# Altium integrated library diode.IntLib: 193 symbols
Pins are listed as number, name and electrical type; pins without a type are passive.

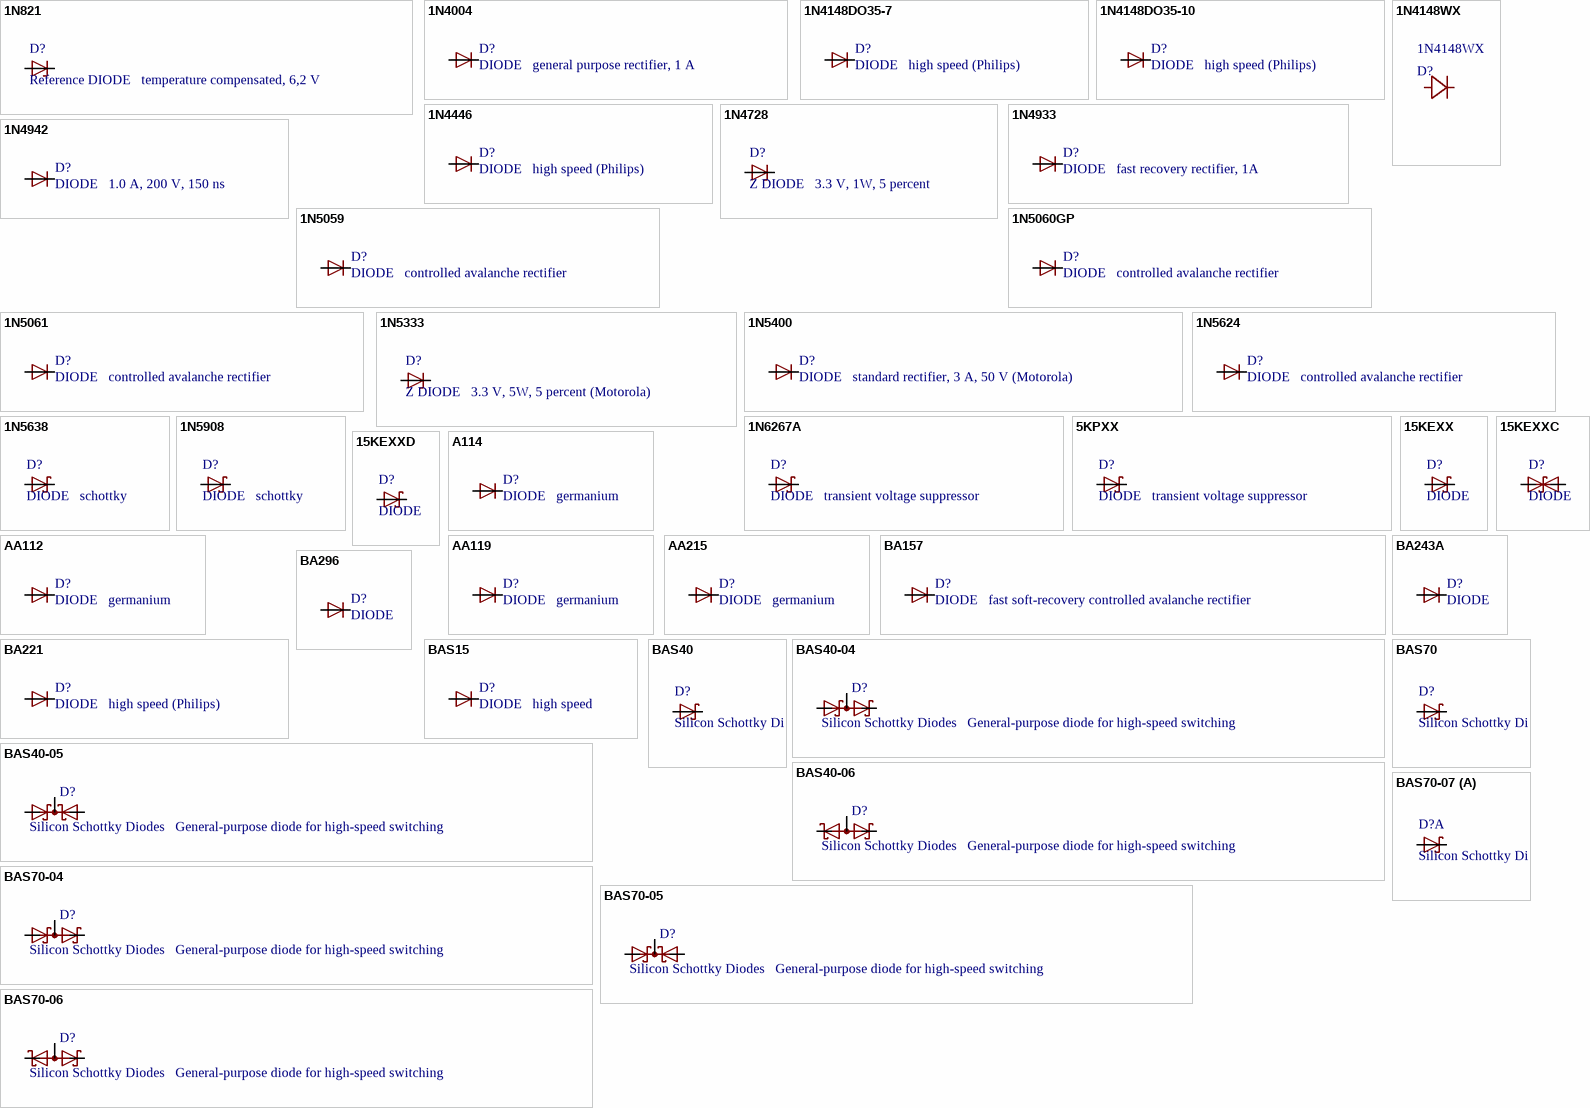
[diagram p0: symbols 1N821 to BAS70-07]

## 1N821
designator D?, comment Reference DIODE   temperature compensated, 6,2 V
footprint DO35Z10
pins: A, C

## 1N4004
designator D?, comment DIODE   general purpose rectifier, 1 A
footprint DO41-10
pins: A, C

## 1N4148DO35-7
designator D?, comment DIODE   high speed (Philips)
footprint DO35-7
pins: A, C

## 1N4148DO35-10
designator D?, comment DIODE   high speed (Philips)
footprint DO35-10
pins: A, C

## 1N4148WX
designator D?
Part Number: 1N4148WX
footprint SOD323
pins: A, C

## 1N4446
designator D?, comment DIODE   high speed (Philips)
footprint DO35-10
pins: A, C

## 1N4728
designator D?, comment Z DIODE   3.3 V, 1W, 5 percent
footprint DO41Z10
pins: A, C

## 1N4933
designator D?, comment DIODE   fast recovery rectifier, 1A
footprint DO41-10
pins: A, C

## 1N4942
designator D?, comment DIODE   1.0 A, 200 V, 150 ns
footprint DO41-10
pins: A, C

## 1N5059
designator D?, comment DIODE   controlled avalanche rectifier
footprint DO204-10
pins: A, C

## 1N5060GP
designator D?, comment DIODE   controlled avalanche rectifier
footprint DO15-12
pins: A, C

## 1N5061
designator D?, comment DIODE   controlled avalanche rectifier
footprint SOD57-10
pins: A, C

## 1N5333
designator D?, comment Z DIODE   3.3 V, 5W, 5 percent (Motorola)
footprint C1702-15
pins: A, C

## 1N5400
designator D?, comment DIODE   standard rectifier, 3 A, 50 V (Motorola)
footprint DO201-15
pins: A, C

## 1N5624
designator D?, comment DIODE   controlled avalanche rectifier
footprint DO201-15
pins: A, C

## 1N5638
designator D?, comment DIODE   schottky
footprint DO13M
pins: A, C

## 1N5908
designator D?, comment DIODE   schottky
footprint C4111-15
pins: A, C

## 1N6267A
designator D?, comment DIODE   transient voltage suppressor
footprint C4111-15
pins: A, C

## 5KPXX
designator D?, comment DIODE   transient voltage suppressor
footprint P6T15
pins: A, C

## 15KEXX
designator D?, comment DIODE
footprint CB429-17
pins: A, C

## 15KEXXC
designator D?, comment DIODE
footprint CB429-17
pins: A 1, C 2

## 15KEXXD
designator D?, comment DIODE
footprint DO201T15
pins: A, C

## A114
designator D?, comment DIODE   germanium
footprint DO204-10
pins: A, C

## AA112
designator D?, comment DIODE   germanium
footprint DO07
pins: A, C

## AA119
designator D?, comment DIODE   germanium
footprint DO07
pins: A, C

## AA215
designator D?, comment DIODE   germanium
footprint DO07
pins: A, C

## BA157
designator D?, comment DIODE   fast soft-recovery controlled avalanche rectifier
footprint P1-10
pins: A, C

## BA221
designator D?, comment DIODE   high speed (Philips)
footprint DO35-10
pins: A, C

## BA243A
designator D?, comment DIODE
footprint DO35-10
pins: A, C

## BA296
designator D?, comment DIODE
footprint P2-15
pins: A, C

## BAS15
designator D?, comment DIODE   high speed
footprint DO34-7
pins: A, C

## BAS40
designator D?, comment Silicon Schottky Diodes   General-purpose diode for high-speed switching
footprint SOT23
pins: 1 A, 3 C

## BAS40-04
designator D?, comment Silicon Schottky Diodes   General-purpose diode for high-speed switching
footprint SOT23
pins: 1 A1, 2 C2, 3 C1A2

## BAS40-05
designator D?, comment Silicon Schottky Diodes   General-purpose diode for high-speed switching
footprint SOT23
pins: 1 A1, 2 A2, 3 C

## BAS40-06
designator D?, comment Silicon Schottky Diodes   General-purpose diode for high-speed switching
footprint SOT23
pins: 1 K1, 2 K2, 3 AA

## BAS70
designator D?, comment Silicon Schottky Diodes   General-purpose diode for high-speed switching
footprint SOT23
pins: 1 A, 3 C

## BAS70-04
designator D?, comment Silicon Schottky Diodes   General-purpose diode for high-speed switching
footprint SOT23
pins: 1 A1, 2 C2, 3 C1A2

## BAS70-05
designator D?, comment Silicon Schottky Diodes   General-purpose diode for high-speed switching
footprint SOT23
pins: 1 A1, 2 A2, 3 C

## BAS70-06
designator D?, comment Silicon Schottky Diodes   General-purpose diode for high-speed switching
footprint SOT23
pins: 1 K1, 2 K2, 3 AA

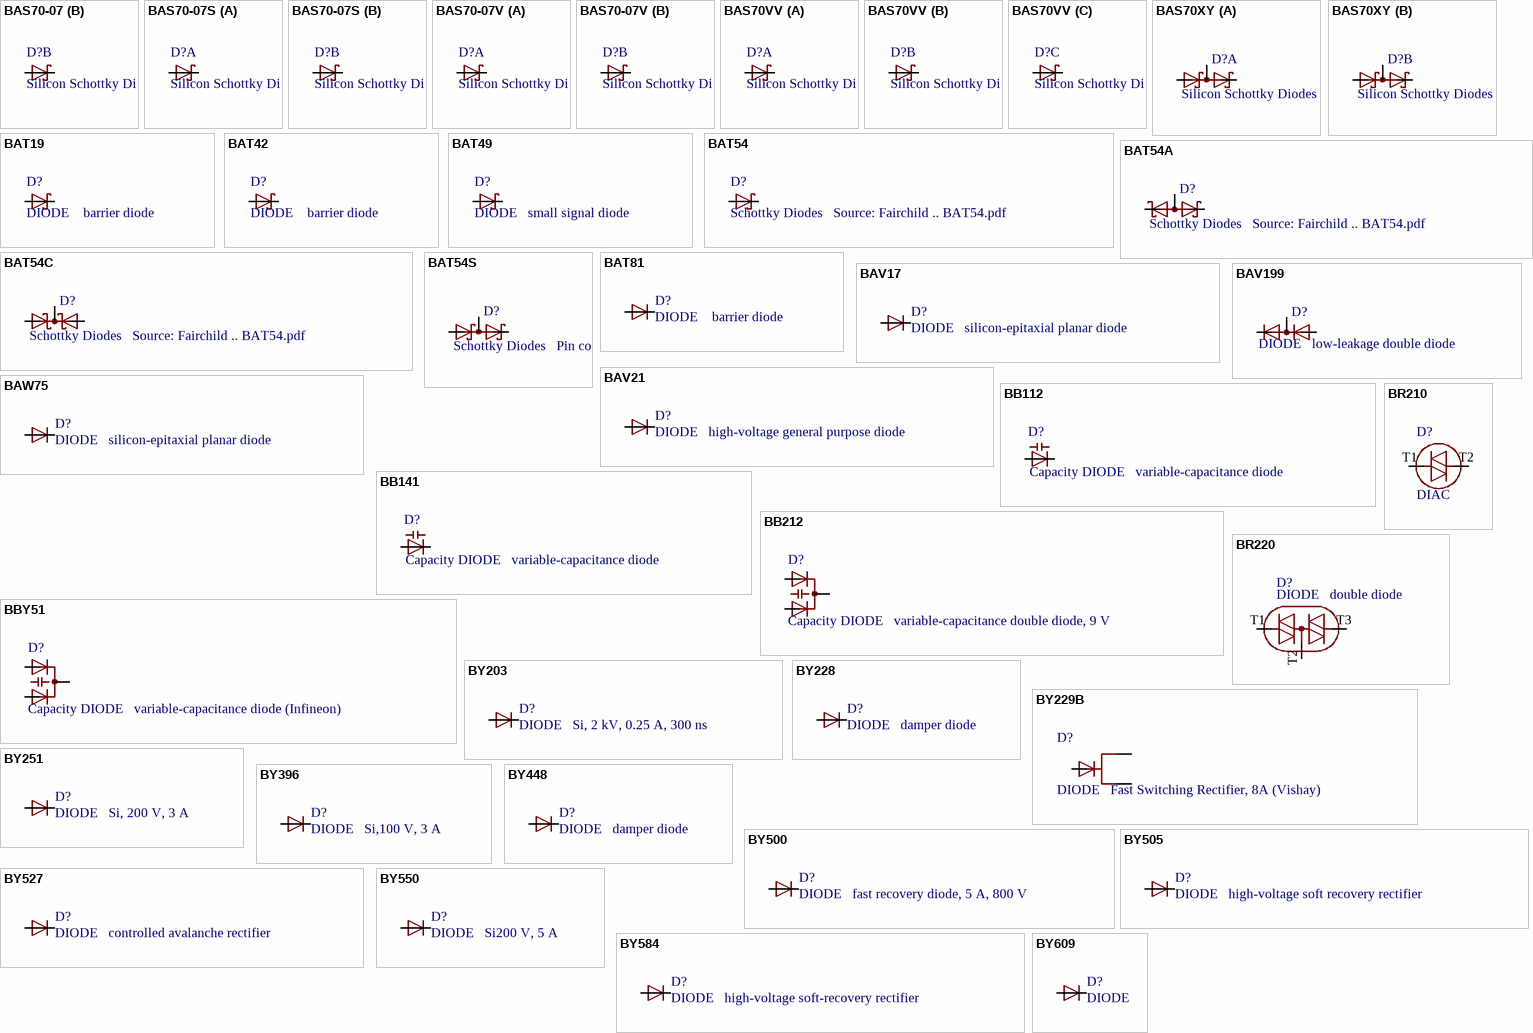
[diagram p1: symbols BAS70-07 to BY609]

## BAS70-07
designator D?, comment Silicon Schottky Diodes   General-purpose diode for high-speed switching Source: BAS70_1PS7XSB70_SER_8.pdf
footprint SOT143-R
part A pins: 1 C, 4 A
part B pins: 2 C, 3 A

## BAS70-07S
designator D?, comment Silicon Schottky Diodes   General-purpose diode for high-speed switching Source: BAS70_1PS7XSB70_SER_8.pdf
footprint SOT363_PHILIPS
part A pins: 1 A, 6 C
part B pins: 3 C, 4 A

## BAS70-07V
designator D?, comment Silicon Schottky Diodes   General-purpose diode for high-speed switching Source: BAS70_1PS7XSB70_SER_8.pdf
footprint SOT666
part A pins: 1 A, 6 C
part B pins: 3 C, 4 A

## BAS70VV
designator D?, comment Silicon Schottky Diodes   General-purpose diode for high-speed switching Source: BAS70_1PS7XSB70_SER_8.pdf
footprint SOT666
part A pins: 1 A, 6 C
part B pins: 2 A, 5 C
part C pins: 3 A, 4 C

## BAS70XY
designator D?, comment Silicon Schottky Diodes   General-purpose diode for high-speed switching Source: BAS70_1PS7XSB70_SER_8.pdf
footprint SOT363_PHILIPS
part A pins: 1 A1, 2 C2, 6 C1A2
part B pins: 3 C1A2, 4 A1, 5 C2

## BAT19
designator D?, comment DIODE    barrier diode
footprint DO35-10
pins: A, C

## BAT42
designator D?, comment DIODE    barrier diode
footprint DO35-10
pins: A, C

## BAT49
designator D?, comment DIODE   small signal diode
footprint DO41-10
pins: A, C

## BAT54
designator D?, comment Schottky Diodes   Source: Fairchild .. BAT54.pdf
footprint SOT23
pins: 1 A, 3 C

## BAT54A
designator D?, comment Schottky Diodes   Source: Fairchild .. BAT54.pdf
footprint SOT23
pins: 1 K1, 2 K2, 3 AA

## BAT54C
designator D?, comment Schottky Diodes   Source: Fairchild .. BAT54.pdf
footprint SOT23
pins: 1 A1, 2 A2, 3 CC

## BAT54S
designator D?, comment Schottky Diodes   Pin connection corrected 2011-05-04 Source: Fairchild .. BAT54.pdf
footprint SOT23
pins: 1 A1, 2 C2, 3 C1A2

## BAT81
designator D?, comment DIODE    barrier diode
footprint DO34-7
pins: A, C

## BAV17
designator D?, comment DIODE   silicon-epitaxial planar diode
footprint DO35-10
pins: A, C

## BAV21
designator D?, comment DIODE   high-voltage general purpose diode
footprint DO35-10
pins: A, C

## BAV199
designator D?, comment DIODE   low-leakage double diode
footprint SOT23
pins: 1 A, 2 C, 3 AC

## BAW75
designator D?, comment DIODE   silicon-epitaxial planar diode
footprint DO35-10
pins: A, C

## BB112
designator D?, comment Capacity DIODE   variable-capacitance diode
footprint SOT54H
pins: A, C

## BB141
designator D?, comment Capacity DIODE   variable-capacitance diode
footprint SOD523
pins: A, C

## BB212
designator D?, comment Capacity DIODE   variable-capacitance double diode, 9 V
footprint SOT54E
pins: A1, A2, C

## BBY51
designator D?, comment Capacity DIODE   variable-capacitance diode (Infineon)
footprint SOT23
pins: 1 A1, 2 A2, 3 C

## BR210
designator D?, comment DIAC
footprint BR210S
pins: T1, T2

## BR220
designator D?, comment DIODE   double diode
footprint BR220S
pins: T1, T2, T3

## BY203
designator D?, comment DIODE   Si, 2 kV, 0.25 A, 300 ns
footprint SGA-10
pins: A, C

## BY228
designator D?, comment DIODE   damper diode
footprint SOD64-10
pins: A, C

## BY229B
designator D?, comment DIODE   Fast Switching Rectifier, 8A (Vishay)
footprint TO263AB
pins: 1, 2, K

## BY251
designator D?, comment DIODE   Si, 200 V, 3 A
footprint DO201-15
pins: A, C

## BY396
designator D?, comment DIODE   Si,100 V, 3 A
footprint DO201-15
pins: A, C

## BY448
designator D?, comment DIODE   damper diode
footprint SOD57-10
pins: A, C

## BY500
designator D?, comment DIODE   fast recovery diode, 5 A, 800 V
footprint DO201-15
pins: A, C

## BY505
designator D?, comment DIODE   high-voltage soft recovery rectifier
footprint SOD61A
pins: A, C

## BY527
designator D?, comment DIODE   controlled avalanche rectifier
footprint SOD57Z10
pins: A, C

## BY550
designator D?, comment DIODE   Si200 V, 5 A
footprint DO27-15
pins: A, C

## BY584
designator D?, comment DIODE   high-voltage soft-recovery rectifier
footprint SOD61A
pins: A, C

## BY609
designator D?, comment DIODE
footprint SOD61B
pins: A, C

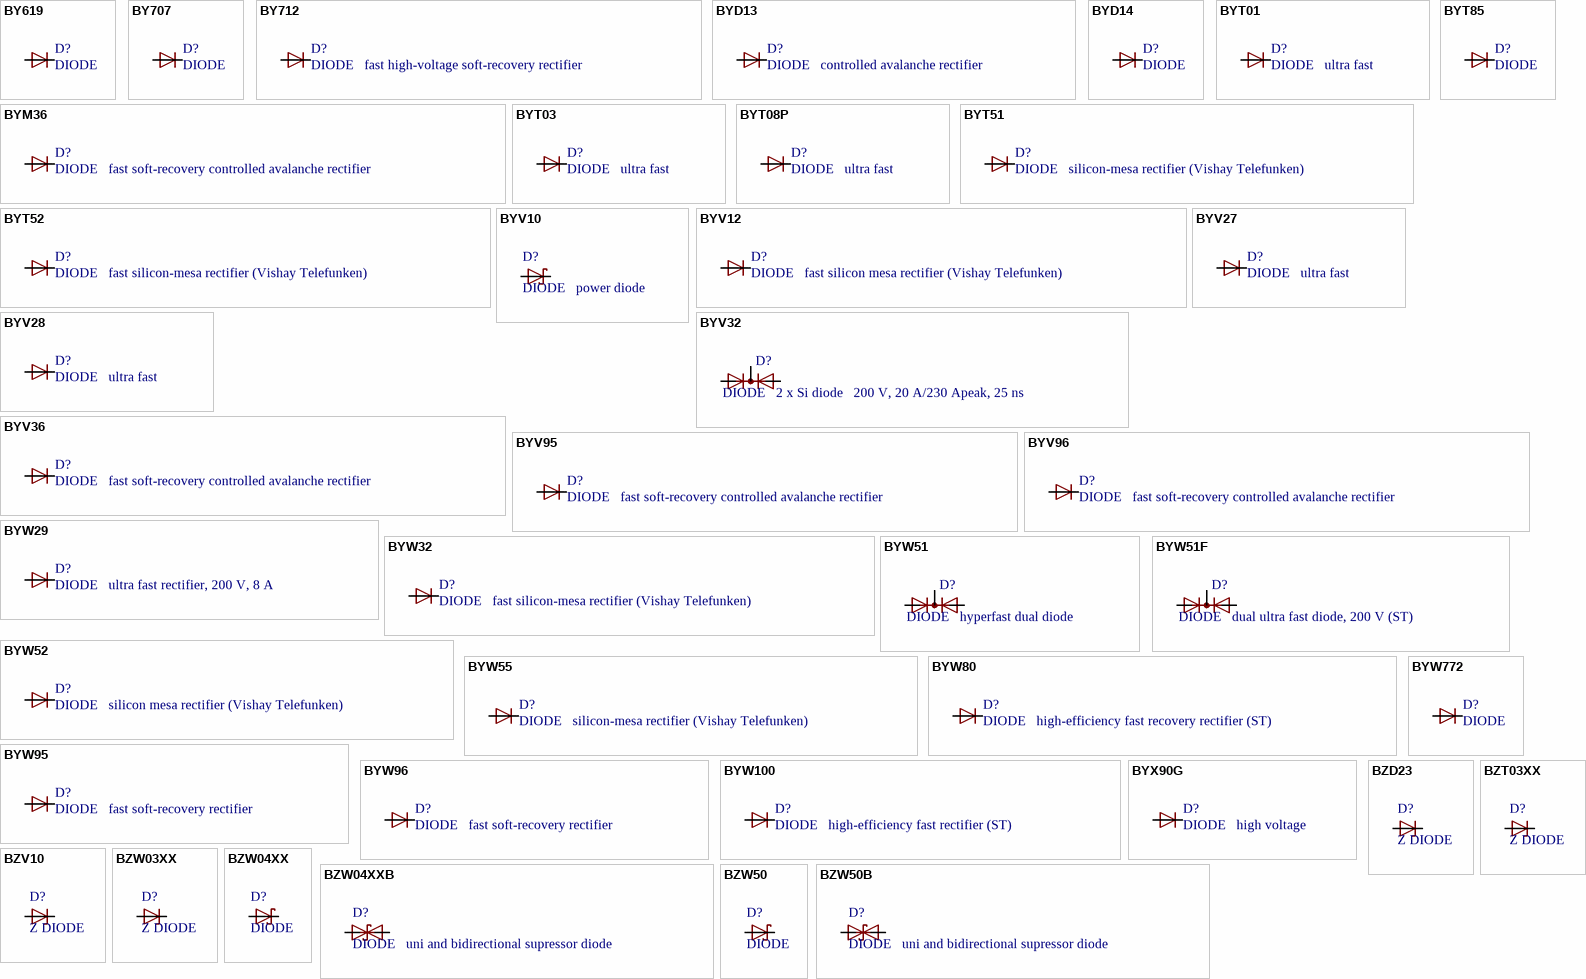
[diagram p2: symbols BY619 to BZW50B]

## BY619
designator D?, comment DIODE
footprint SOD61C
pins: A, C

## BY707
designator D?, comment DIODE
footprint SOD61D
pins: A, C

## BY712
designator D?, comment DIODE   fast high-voltage soft-recovery rectifier
footprint SOD61E
pins: A, C

## BYD13
designator D?, comment DIODE   controlled avalanche rectifier
footprint SOD81
pins: A, C

## BYD14
designator D?, comment DIODE
footprint SOD84
pins: A, C

## BYM36
designator D?, comment DIODE   fast soft-recovery controlled avalanche rectifier
footprint SOD64-10
pins: A, C

## BYT01
designator D?, comment DIODE   ultra fast
footprint F126-10
pins: A, C

## BYT03
designator D?, comment DIODE   ultra fast
footprint DO27-15
pins: A, C

## BYT08P
designator D?, comment DIODE   ultra fast
footprint TO220ACS
pins: A, C

## BYT51
designator D?, comment DIODE   silicon-mesa rectifier (Vishay Telefunken)
footprint SGA-10
pins: A, C

## BYT52
designator D?, comment DIODE   fast silicon-mesa rectifier (Vishay Telefunken)
footprint SGA-10
pins: A, C

## BYT85
designator D?, comment DIODE
footprint DO220S
pins: A, C

## BYV10
designator D?, comment DIODE   power diode
footprint DO41-10
pins: A, C

## BYV12
designator D?, comment DIODE   fast silicon mesa rectifier (Vishay Telefunken)
footprint SGA-10
pins: A, C

## BYV27
designator D?, comment DIODE   ultra fast
footprint SOD57-10
pins: A, C

## BYV28
designator D?, comment DIODE   ultra fast
footprint SOD64-10
pins: A, C

## BYV32
designator D?, comment DIODE   2 x Si diode   200 V, 20 A/230 Apeak, 25 ns
footprint TO220ABS
pins: A1, A2, C

## BYV36
designator D?, comment DIODE   fast soft-recovery controlled avalanche rectifier
footprint SOD57-10
pins: A, C

## BYV95
designator D?, comment DIODE   fast soft-recovery controlled avalanche rectifier
footprint SOD57-10
pins: A, C

## BYV96
designator D?, comment DIODE   fast soft-recovery controlled avalanche rectifier
footprint SOD57-10
pins: A, C

## BYW29
designator D?, comment DIODE   ultra fast rectifier, 200 V, 8 A
footprint DO220S
pins: A, C

## BYW32
designator D?, comment DIODE   fast silicon-mesa rectifier (Vishay Telefunken)
footprint DO204-10
pins: A, C

## BYW51
designator D?, comment DIODE   hyperfast dual diode
footprint TO220ABS
pins: A1, A2, C

## BYW51F
designator D?, comment DIODE   dual ultra fast diode, 200 V (ST)
footprint IW220ABS
pins: A1, A2, C

## BYW52
designator D?, comment DIODE   silicon mesa rectifier (Vishay Telefunken)
footprint DO204-10
pins: A, C

## BYW55
designator D?, comment DIODE   silicon-mesa rectifier (Vishay Telefunken)
footprint SOD57-10
pins: A, C

## BYW80
designator D?, comment DIODE   high-efficiency fast recovery rectifier (ST)
footprint TO220ACS
pins: A, C

## BYW95
designator D?, comment DIODE   fast soft-recovery rectifier
footprint SOD64-10
pins: A, C

## BYW96
designator D?, comment DIODE   fast soft-recovery rectifier
footprint SOD64-10
pins: A, C

## BYW100
designator D?, comment DIODE   high-efficiency fast rectifier (ST)
footprint F126-10
pins: A, C

## BYW772
designator D?, comment DIODE
footprint G4-12
pins: A, C

## BYX90G
designator D?, comment DIODE   high voltage
footprint SOD83-12
pins: A, C

## BZD23
designator D?, comment Z DIODE
footprint SOD81
pins: A, C

## BZT03XX
designator D?, comment Z DIODE
footprint SOD57Z10
pins: A, C

## BZV10
designator D?, comment Z DIODE
footprint DO34Z7
pins: A, C

## BZW03XX
designator D?, comment Z DIODE
footprint SOD64Z12
pins: A, C

## BZW04XX
designator D?, comment DIODE
footprint F126Z12
pins: A, C

## BZW04XXB
designator D?, comment DIODE   uni and bidirectional supressor diode
footprint F126Z12
pins: A 1, C 2

## BZW50
designator D?, comment DIODE
footprint AG
pins: A, C

## BZW50B
designator D?, comment DIODE   uni and bidirectional supressor diode
footprint AG
pins: A 1, C 2

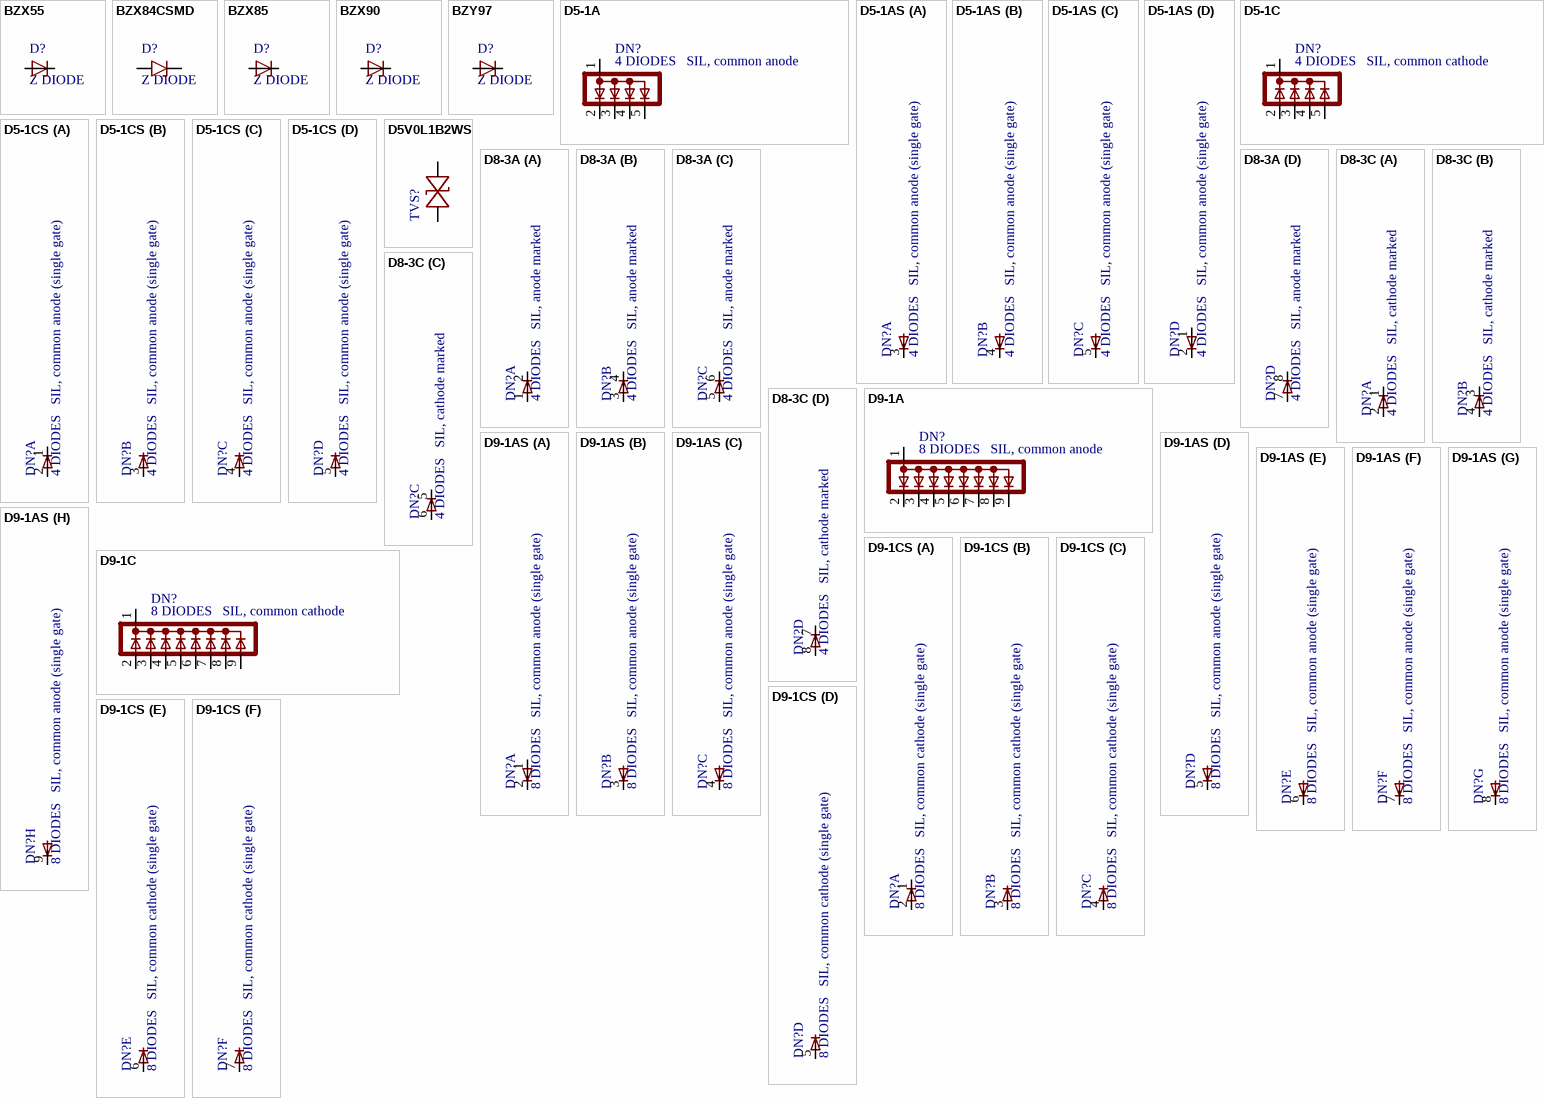
[diagram p3: symbols BZX55 to D9-1CS]

## BZX55
designator D?, comment Z DIODE
footprint DO35Z10
pins: A, C

## BZX84CSMD
designator D?, comment Z DIODE
footprint TO236
pins: A, C

## BZX85
designator D?, comment Z DIODE
footprint DO41Z10
pins: A, C

## BZX90
designator D?, comment Z DIODE
footprint DO34Z7
pins: A, C

## BZY97
designator D?, comment Z DIODE
footprint F126Z12
pins: A, C

## D5-1A
designator DN?, comment 4 DIODES   SIL, common anode
footprint SIL05A
pins: 1 A, 2 C2, 3 C3, 4 C4, 5 C5

## D5-1AS
designator DN?, comment 4 DIODES   SIL, common anode (single gate)
footprint SIL05A
part A pins: 3 C
part B pins: 4 C
part C pins: 5 C
part D pins: 1 A, 2 C

## D5-1C
designator DN?, comment 4 DIODES   SIL, common cathode
footprint SIL05C
pins: 1 C, 2, 3, 4, 5

## D5-1CS
designator DN?, comment 4 DIODES   SIL, common anode (single gate)
footprint SIL05C
part A pins: 1 C, 2 A
part B pins: 3 A
part C pins: 4 A
part D pins: 5 A

## D5V0L1B2WS
designator TVS?
footprint SOD323
pins: A, C

## D8-3A
designator DN?, comment 4 DIODES   SIL, anode marked
footprint SIL08A
part A pins: 1 A, 2 C
part B pins: 3 A, 4 C
part C pins: 5 A, 6 C
part D pins: 7 A, 8 C

## D8-3C
designator DN?, comment 4 DIODES   SIL, cathode marked
footprint SIL08C
part A pins: 1 C, 2 A
part B pins: 3 C, 4 A
part C pins: 5 C, 6 A
part D pins: 7 C, 8 A

## D9-1A
designator DN?, comment 8 DIODES   SIL, common anode
footprint SIL09A
pins: 1 A, 2 C2, 3 C3, 4 C4, 5 C5, 6 C6, 7 C7, 8 C8, 9 C9

## D9-1AS
designator DN?, comment 8 DIODES   SIL, common anode (single gate)
footprint SIL09A
part A pins: 1 A, 2 C
part B pins: 3 C
part C pins: 4 C
part D pins: 5 C
part E pins: 6 C
part F pins: 7 C
part G pins: 8 C
part H pins: 9 C

## D9-1C
designator DN?, comment 8 DIODES   SIL, common cathode
footprint SIL09C
pins: 1 C, 2, 3, 4, 5, 6, 7, 8, 9

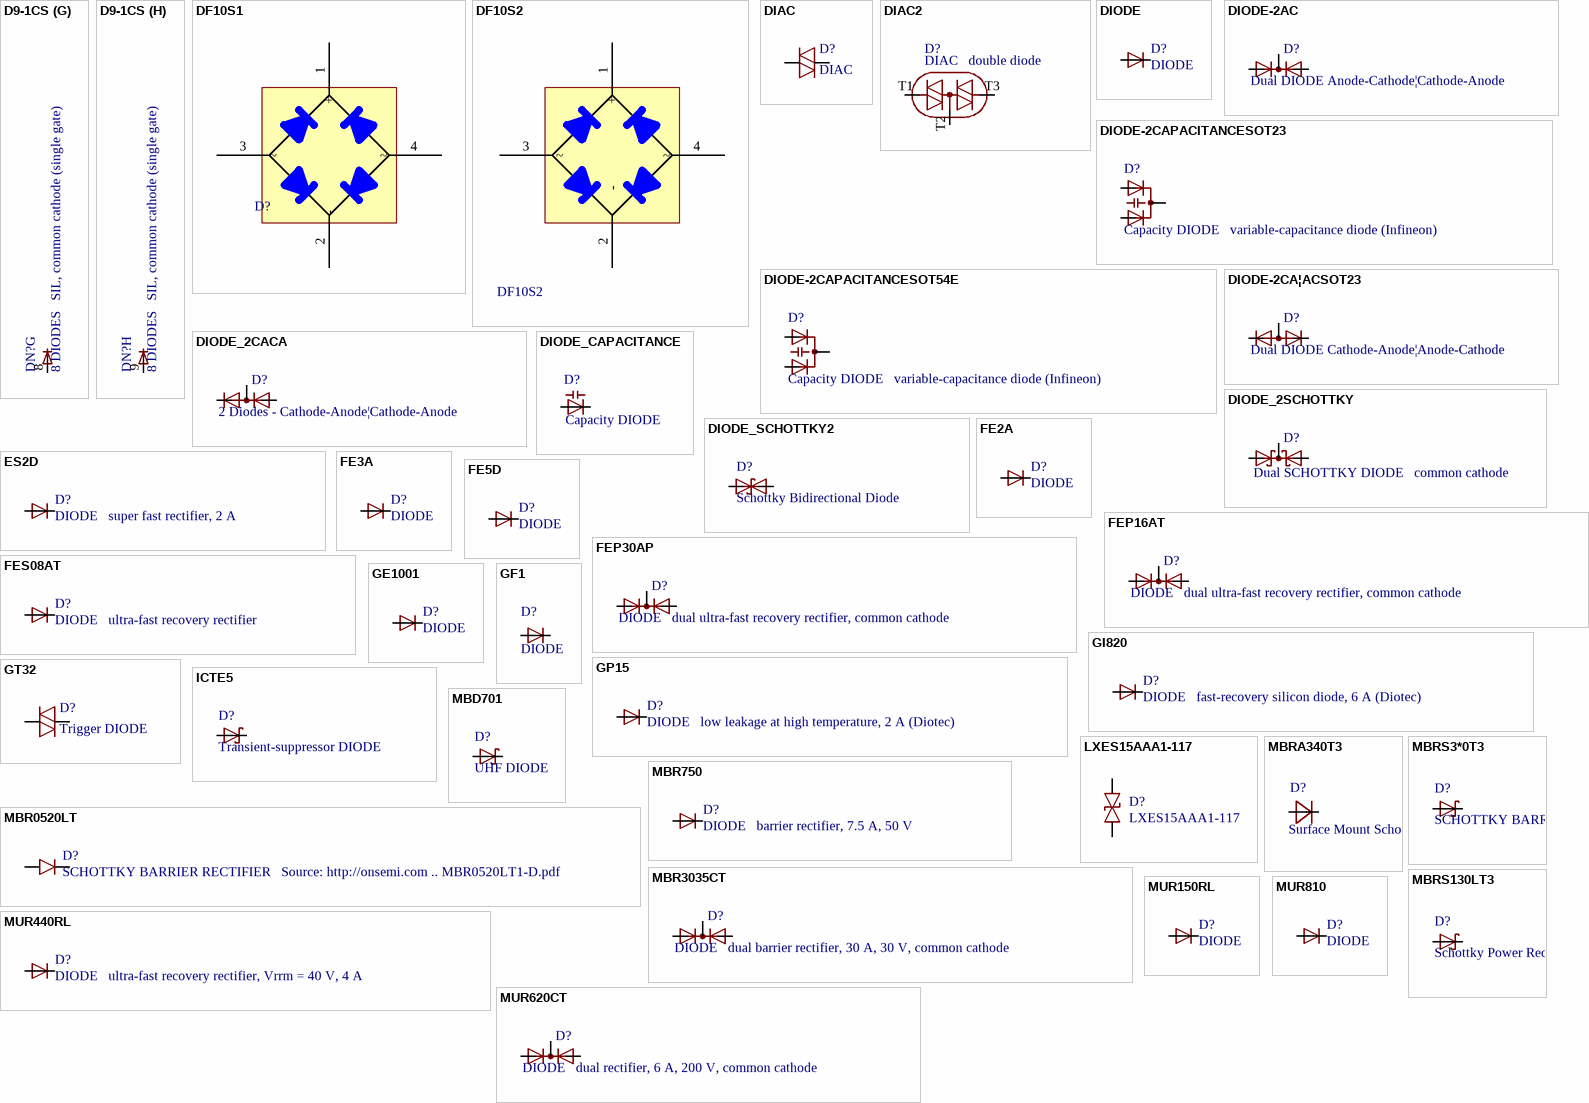
[diagram p4: symbols D9-1CS to MUR810]

## D9-1CS
designator DN?, comment 8 DIODES   SIL, common cathode (single gate)
footprint SIL09C
part A pins: 1 C, 2 A
part B pins: 3 A
part C pins: 4 A
part D pins: 5 A
part E pins: 6 A
part F pins: 7 A
part G pins: 8 A
part H pins: 9 A

## DF10S1
designator D?
Part Number: DF10S1
footprint SDIP 4L
pins: 1 +, 2 -, 3 ~, 4 ~

## DF10S2
designator =Designator  Vendor: DF10S2
pins: 1          +, 2        -, 3  ~, 4          ~

## DIAC
designator D?
footprint BR210S
pins: T1 1, T2 2

## DIAC2
designator D?, comment DIAC   double diode
footprint BR220S
pins: T1, T2, T3

## DIODE
designator D?
footprint C221B1A
pins: A, C

## DIODE-2AC
designator D?, comment Dual DIODE Anode-Cathode|Cathode-Anode
footprint C1103
pins: A1, A2, C@1 C

## DIODE-2CAPACITANCESOT23
designator D?, comment Capacity DIODE   variable-capacitance diode (Infineon)
footprint SOT23
pins: 1 A1, 2 A2, 3 C

## DIODE-2CAPACITANCESOT54E
designator D?, comment Capacity DIODE   variable-capacitance diode (Infineon)
footprint SOT54E
pins: A1, A2, C

## DIODE-2CA|ACSOT23
designator D?, comment Dual DIODE Cathode-Anode|Anode-Cathode
footprint SOT23
pins: 1 K1, 2 K2, 3 A

## DIODE_2CACA
designator D?, comment 2 Diodes - Cathode-Anode|Cathode-Anode
footprint SOT23
pins: 1 A, 2 C, 3 AC

## DIODE_2SCHOTTKY
designator D?, comment Dual SCHOTTKY DIODE   common cathode
footprint SOT82L
pins: A1, A2, C

## DIODE_CAPACITANCE
designator D?, comment Capacity DIODE
footprint SOD523
pins: A, C

## DIODE_SCHOTTKY2
designator D?, comment Schottky Bidirectional Diode
footprint CB417-15
pins: A 1, C 2

## ES2D
designator D?, comment DIODE   super fast rectifier, 2 A
footprint SMB
pins: A, C

## FE2A
designator D?, comment DIODE
footprint DO204-10
pins: A, C

## FE3A
designator D?, comment DIODE
footprint G4-12
pins: A, C

## FE5D
designator D?, comment DIODE
footprint G4-12
pins: A, C

## FEP16AT
designator D?, comment DIODE   dual ultra-fast recovery rectifier, common cathode
footprint TO220ABS
pins: A1, A2, C

## FEP30AP
designator D?, comment DIODE   dual ultra-fast recovery rectifier, common cathode
footprint TO3P
pins: 1 A1, 2 C, 3 A2

## FES08AT
designator D?, comment DIODE   ultra-fast recovery rectifier
footprint DO220S
pins: A, C

## GE1001
designator D?, comment DIODE
footprint DO204-10
pins: A, C

## GF1
designator D?, comment DIODE
footprint SMA-DO214AC
pins: A, K C

## GI820
designator D?, comment DIODE   fast-recovery silicon diode, 6 A (Diotec)
footprint P6-15
pins: A, C

## GP15
designator D?, comment DIODE   low leakage at high temperature, 2 A (Diotec)
footprint DO15-12
pins: A, C

## GT32
designator D?, comment Trigger DIODE
footprint GT32
pins: 1, 2

## ICTE5
designator D?, comment Transient-suppressor DIODE
footprint C4111-15
pins: A, C

## LXES15AAA1-117
designator D?
Diode protection
footprint 402
pins: A, C

## MBD701
designator D?, comment UHF DIODE
footprint TO92H
pins: 1 A, 2 C

## MBR0520LT
designator D?, comment SCHOTTKY BARRIER RECTIFIER   Source: http://onsemi.com .. MBR0520LT1-D.pdf
footprint SOD123
pins: A, C

## MBR750
designator D?, comment DIODE   barrier rectifier, 7.5 A, 50 V
footprint TO220AC
pins: A, C

## MBR3035CT
designator D?, comment DIODE   dual barrier rectifier, 30 A, 30 V, common cathode
footprint C1103
pins: A1, A2, C@1 C

## MBRA340T3
designator D?, comment Surface Mount Schottky Power Rectifier   Source: http://www.onsemi.com/pub_link/Collateral/MBRA340T3-D.PDF
footprint SMA
pins: A, C

## MBRS3*0T3
designator D?, comment SCHOTTKY BARRIER RECTIFIER 3.0 AMPERES 20, 30, 40 VOLT   Source: MBRS340T3-D.pdf
footprint SMC
pins: A, C

## MBRS130LT3
designator D?, comment Schottky Power Rectifier   Source: http://www.onsemi.com/pub/Collateral/MBRS130LT3-D.PDF
footprint SMB
pins: A, C

## MUR150RL
designator D?, comment DIODE
footprint DO41-10
pins: A, C

## MUR440RL
designator D?, comment DIODE   ultra-fast recovery rectifier, Vrrm = 40 V, 4 A
footprint C2673
pins: A, C

## MUR620CT
designator D?, comment DIODE   dual rectifier, 6 A, 200 V, common cathode
footprint TO220AB
pins: A1, A2, C

## MUR810
designator D?, comment DIODE
footprint TO220ACS
pins: A, C

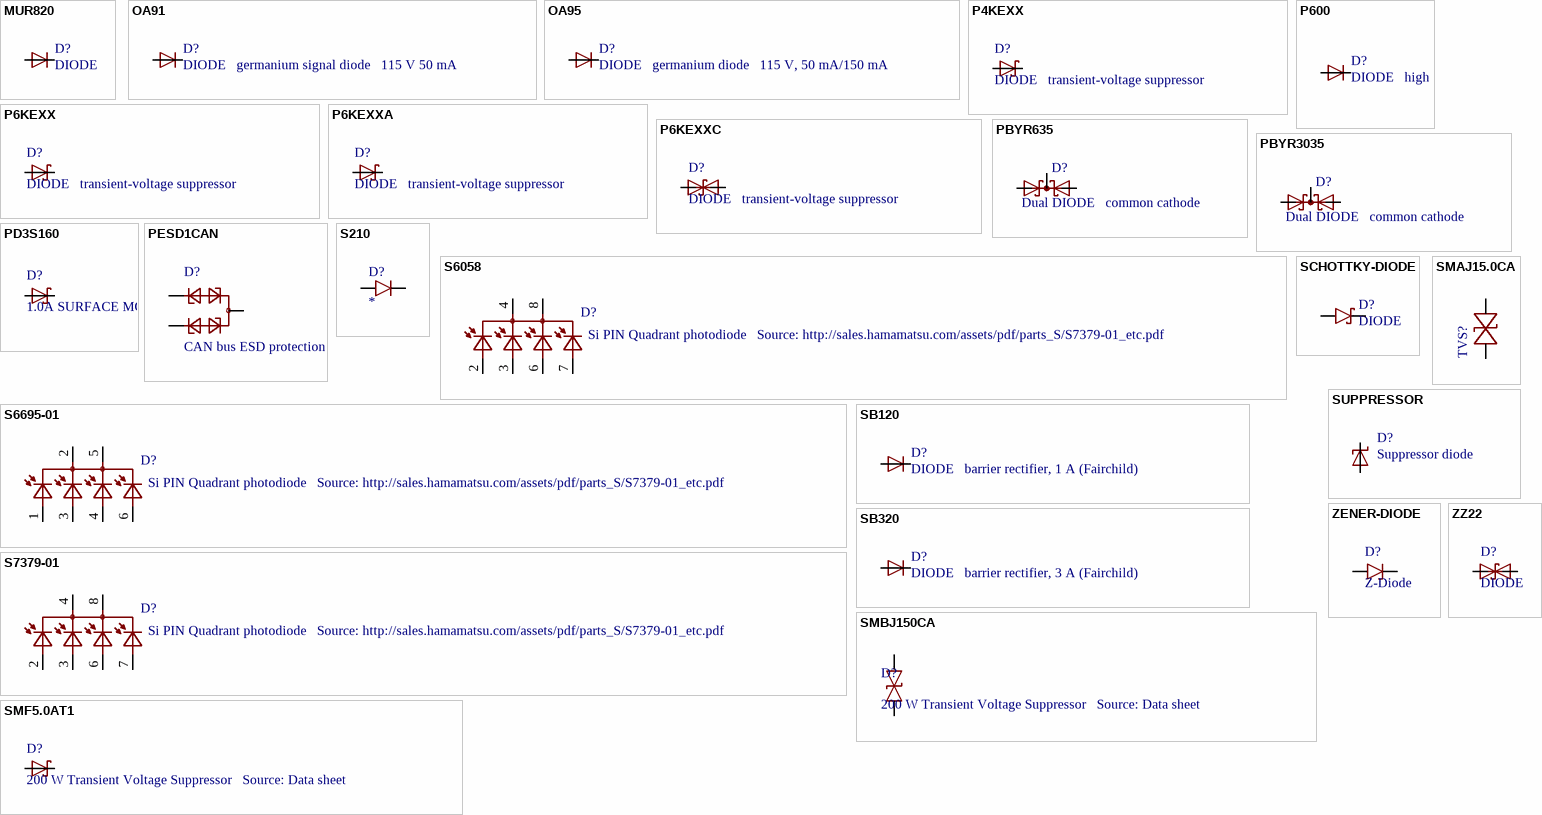
[diagram p5: symbols MUR820 to ZZ22]

## MUR820
designator D?, comment DIODE
footprint C221B1A
pins: A, C

## OA91
designator D?, comment DIODE   germanium signal diode   115 V 50 mA
footprint DO07
pins: A, C

## OA95
designator D?, comment DIODE   germanium diode   115 V, 50 mA/150 mA
footprint DO07
pins: A, C

## P4KEXX
designator D?, comment DIODE   transient-voltage suppressor
footprint DO41-10
pins: A, C

## P6KEXX
designator D?, comment DIODE   transient-voltage suppressor
footprint CB417-15
pins: A, C

## P6KEXXA
designator D?, comment DIODE   transient-voltage suppressor
footprint C1702-15
pins: A, C

## P6KEXXC
designator D?, comment DIODE   transient-voltage suppressor
footprint CB417-15
pins: A 1, C 2

## P600
designator D?, comment DIODE   high voltage diode, silicon rectifier   1.0 A to 6.0 A, 50 V to 1300 V   http://www.kosemi.com/product/diosr.html
footprint P6-15
pins: A, C

## PBYR635
designator D?, comment Dual DIODE   common cathode
footprint SOT82S
pins: A1, A2, C

## PBYR3035
designator D?, comment Dual DIODE   common cathode
footprint SOT93S
pins: A1, A2, C

## PD3S160
designator D?, comment 1.0A SURFACE MOUNT SCHOTTKY BARRIER RECTIFIER POWERDI Â® 323    Source: http://www.diodes.com/datasheets/ds30899.pdf
footprint POWERDI323
pins: A, C

## PESD1CAN
designator D?, comment CAN bus ESD protection diode   Source: http://www.nxp.com/documents/data_sheet/PESD1CAN.pdf
footprint SOT23
pins: 1, 2, 3

## S210
designator D?
footprint DO214AA
pins: A, C

## S6058
designator D?, comment Si PIN Quadrant photodiode   Source: http://sales.hamamatsu.com/assets/pdf/parts_S/S7379-01_etc.pdf
footprint S6058
pins: 2 AA, 3 AB, 4 C1, 6 AC, 7 AD, 8 C2

## S6695-01
designator D?, comment Si PIN Quadrant photodiode   Source: http://sales.hamamatsu.com/assets/pdf/parts_S/S7379-01_etc.pdf
footprint S6695-01
pins: 1 AA, 2 C1, 3 AB, 4 AC, 5 C2, 6 AD

## S7379-01
designator D?, comment Si PIN Quadrant photodiode   Source: http://sales.hamamatsu.com/assets/pdf/parts_S/S7379-01_etc.pdf
footprint S7379-01
pins: 2 AA, 3 AB, 4 C1, 6 AC, 7 AD, 8 C2

## SB120
designator D?, comment DIODE   barrier rectifier, 1 A (Fairchild)
footprint DO41-10
pins: A, C

## SB320
designator D?, comment DIODE   barrier rectifier, 3 A (Fairchild)
footprint DO201-15
pins: A, C

## SCHOTTKY-DIODE
designator D?, comment DIODE
footprint SOD123
pins: A, C

## SMAJ15.0CA
designator TVS?  (value not drawn)
Vendor: Bourns; Part Number: SMAJ15.0CA
footprint SMA-DO214AC
pins: A, K

## SMBJ150CA
designator D?, comment 200 W Transient Voltage Suppressor   Source: Data sheet
Part Number: SMBJ150CA
footprint SMB/DO-214AA_meter_sm01B
pins: 1, 2

## SMF5.0AT1
designator D?, comment 200 W Transient Voltage Suppressor   Source: Data sheet
footprint SOD123FL
pins: A, C

## SUPPRESSOR
designator D?, comment Suppressor diode
footprint SMBG
pins: A, C

## ZENER-DIODE
designator D?, comment Z-Diode
footprint SOD123FL
pins: A, C

## ZZ22
designator D?, comment DIODE
footprint P2-15
pins: A 1, C 2